# Altium footprint library chip.PcbLib: 31 footprints (part 2 of 2)
Each footprint in its own frame and in the unit in brackets; x right, y up, seen from the top. Pads: shape width x height; smd on the part's side, far side on the other; paste and mask are expansions set on the pad; w line width, h text height; cw(c..) or ccw(c..) is an arc to the next point about the centre after c.
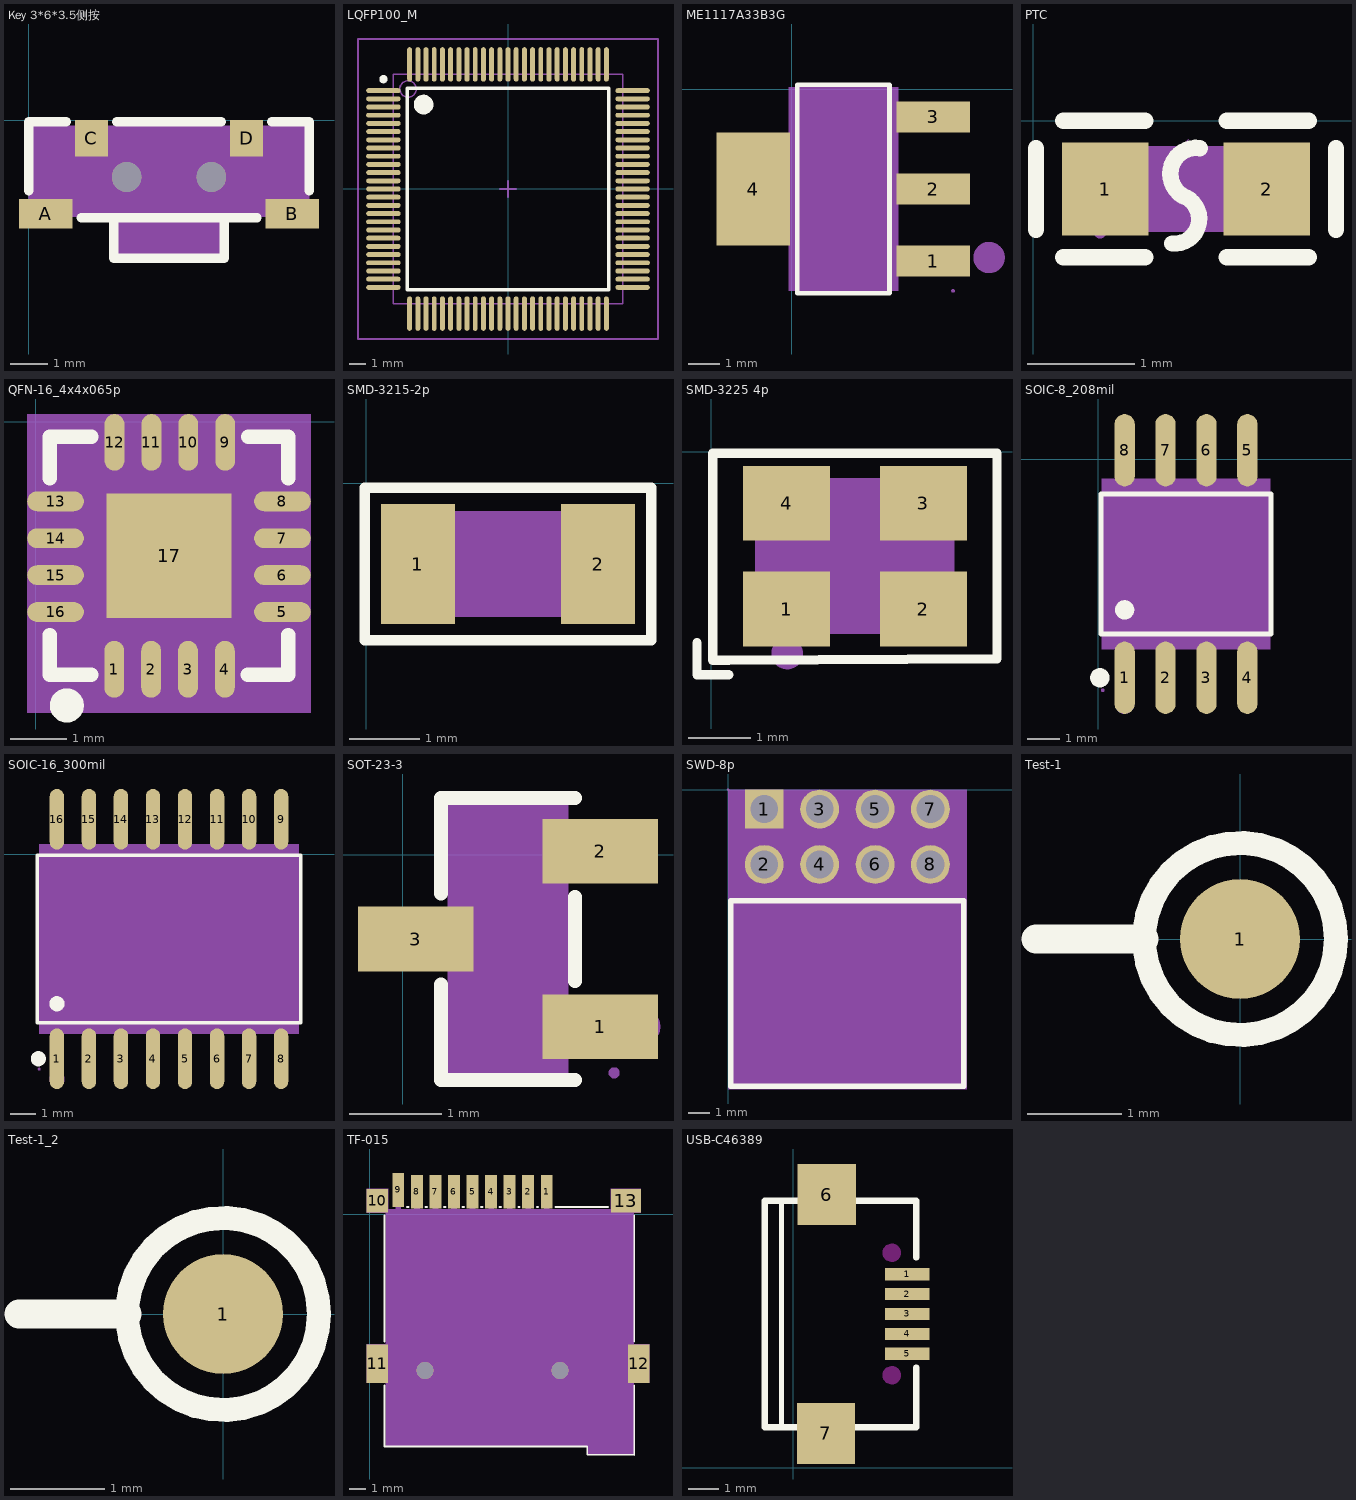
[diagram p1: the footprints below, top view; thin cyan lines are the x and y axes]

## Key 3*6*3.5侧按 [mm]
pads (6):
  rect 1.45x0.8 smd: A(0.455,-2.533) B(7.131,-2.533)
  rect 0.9x1 smd: C(1.693,-0.483) D(5.893,-0.483)
  round 0.8 hole 0.8 unplated: ""(2.643,-1.533) ""(4.943,-1.533)
Top Overlay:
  lines w0.254: -0.007,-1.901 -0.007,-0.033 1.012,-0.033 ; 1.411,-2.633 6.175,-2.633 ; 2.293,-2.633 2.293,-3.733 5.293,-3.733 5.293,-2.633 ; 2.374,-0.033 5.212,-0.038 ; 6.574,-0.033 7.593,-0.033 7.593,-1.901
Mechanical 4:
  circle w0.4: c2.643,-1.533 r0.2
  circle w0.4: c4.943,-1.533 r0.2
  region: -0.007,-0.138 7.593,-0.138 7.593,-2.608 5.293,-2.608 5.293,-3.638 2.293,-3.638 2.293,-2.608 -0.007,-2.608
Mechanical 5:
  circle w0.127: c2.643,-1.533 r0.4
  circle w0.127: c4.943,-1.533 r0.4
  region: 5.593,-0.088 6.193,-0.088 6.193,-0.878 5.593,-0.878
  region: 1.393,-0.088 1.993,-0.088 1.993,-0.878 1.393,-0.878
  region: -0.011,-2.158 -0.011,-2.605 -0.01,-2.606 0.672,-2.606 0.673,-2.607 0.673,-2.438 0.673,-2.437 0.193,-2.437 0.178,-2.422 0.178,-2.158
  region: 7.374,-2.158 7.374,-2.435 6.793,-2.435 6.793,-2.599 7.582,-2.605 7.587,-2.601 7.587,-2.158
Mechanical 15:
  lines w0.003: 3.767,-1.42 3.818,-1.369

## LQFP100_M [mm]
pads (100):
  oval 2.1x0.3 smd: 1(-7.6,6) 2(-7.6,5.5) 3(-7.6,5) 4(-7.6,4.5) 5(-7.6,4) 6(-7.6,3.5) 7(-7.6,3) 8(-7.6,2.5) 9(-7.6,2) 10(-7.6,1.5) 11(-7.6,1) 12(-7.6,0.5) 13(-7.6,0) 14(-7.6,-0.5) 15(-7.6,-1) 16(-7.6,-1.5) 17(-7.6,-2) 18(-7.6,-2.5) 19(-7.6,-3) 20(-7.6,-3.5) 21(-7.6,-4) 22(-7.6,-4.5) 23(-7.6,-5) 24(-7.6,-5.5) 25(-7.6,-6) 51(7.6,-6) 52(7.6,-5.5) 53(7.6,-5) 54(7.6,-4.5) 55(7.6,-4) 56(7.6,-3.5) 57(7.6,-3) 58(7.6,-2.5) 59(7.6,-2) 60(7.6,-1.5) 61(7.6,-1) 62(7.6,-0.5) 63(7.6,0) 64(7.6,0.5) 65(7.6,1) 66(7.6,1.5) 67(7.6,2) 68(7.6,2.5) 69(7.6,3) 70(7.6,3.5) 71(7.6,4) 72(7.6,4.5) 73(7.6,5) 74(7.6,5.5) 75(7.6,6)
  oval 0.3x2.1 smd: 26(-6,-7.6) 27(-5.5,-7.6) 28(-5,-7.6) 29(-4.5,-7.6) 30(-4,-7.6) 31(-3.5,-7.6) 32(-3,-7.6) 33(-2.5,-7.6) 34(-2,-7.6) 35(-1.5,-7.6) 36(-1,-7.6) 37(-0.5,-7.6) 38(0,-7.6) 39(0.5,-7.6) 40(1,-7.6) 41(1.5,-7.6) 42(2,-7.6) 43(2.5,-7.6) 44(3,-7.6) 45(3.5,-7.6) 46(4,-7.6) 47(4.5,-7.6) 48(5,-7.6) 49(5.5,-7.6) 50(6,-7.6) 76(6,7.6) 77(5.5,7.6) 78(5,7.6) 79(4.5,7.6) 80(4,7.6) 81(3.5,7.6) 82(3,7.6) 83(2.5,7.6) 84(2,7.6) 85(1.5,7.6) 86(1,7.6) 87(0.5,7.6) 88(0,7.6) 89(-0.5,7.6) 90(-1,7.6) 91(-1.5,7.6) 92(-2,7.6) 93(-2.5,7.6) 94(-3,7.6) 95(-3.5,7.6) 96(-4,7.6) 97(-4.5,7.6) 98(-5,7.6) 99(-5.5,7.6) 100(-6,7.6)
Top Overlay:
  circle w0.25: c-7.6,6.7 r0.125
  circle w0.6: c-5.15,5.15 r0.3
  lines w0.2: -6.15,-6.15 -6.15,6.15 6.15,6.15 6.15,-6.15 -6.15,-6.15
Mechanical 13:
  circle w0.1: c-6.1,6.1 r0.5
  lines w0.1: -7,-7 -7,7 7,7 7,-7 -7,-7
Mechanical 15:
  lines w0.1: -0.5,0 0.5,0 ; 0,-0.5 0,0.5 ; -9.15,-9.15 -9.15,9.15 9.15,9.15 9.15,-9.15 -9.15,-9.15
3D body "lqfp100.STEP": height 1.63, standoff 0.15, extent -7.975,-7.994 8.025,8.006

## ME1117A33B3G [mm]
pads (4):
  rect 2.34x0.98 smd: 1(4.522,-5.476) 2(4.522,-3.176) 3(4.522,-0.876)
  rect 2.34x3.6 smd: 4(-1.218,-3.176)
Top Overlay:
  lines w0.152: 0.181,-6.502 0.181,0.15 3.124,0.15 3.124,-6.502 0.181,-6.502
Mechanical 4:
  region: -0.098,-6.426 -0.098,0.074 3.402,0.074 3.402,-6.426
Mechanical 5:
  pour cut-out: 3.392,-1.251 3.392,-0.501 4.412,-0.501 4.412,-1.251
  region: 4.402,-1.251 4.402,-0.501 5.152,-0.501 5.152,-1.251
  pour cut-out: 3.392,-3.551 3.392,-2.801 4.412,-2.801 4.412,-3.551
  region: 4.402,-3.551 4.402,-2.801 5.152,-2.801 5.152,-3.551
  pour cut-out: 3.392,-5.851 3.392,-5.101 4.412,-5.101 4.412,-5.851
  region: 4.402,-5.851 4.402,-5.101 5.152,-5.101 5.152,-5.851
  pour cut-out: -1.108,-4.676 -1.108,-1.676 -0.088,-1.676 -0.088,-4.676
  region: -1.848,-4.676 -1.848,-1.676 -1.098,-1.676 -1.098,-4.676
Mechanical 6:
  circle w0.06: c5.153,-6.426 r0.03
Mechanical 15:
  circle w0.5: c6.304,-5.364 r0.25

## PTC [mm]
pads (2):
  rect 0.806x0.864 smd: 1(0.669,-0.635) 2(2.175,-0.635)
Top Overlay:
  lines w0.152: 0.025,-1.016 0.025,-0.254 ; 0.279,-1.27 1.041,-1.27 ; 0.279,0 1.041,0 ; 1.295,-1.143 ccw(c1.316,-0.915) 1.391,-0.699 ; 1.39,-0.699 cw(c1.518,-0.494) 1.549,-0.254 ; 1.803,-1.27 2.565,-1.27 ; 1.803,0 2.565,0 ; 2.819,-1.016 2.819,-0.254
Top Paste:
  region: 1.737,-0.773 1.737,-0.497 2.011,-0.203 2.515,-0.203 2.579,-0.267 2.579,-1.003 2.515,-1.067 2.011,-1.067
  region: 1.107,-0.773 1.107,-0.497 0.833,-0.203 0.33,-0.203 0.266,-0.267 0.266,-1.003 0.33,-1.067 0.833,-1.067
Mechanical 4:
  region: 0.622,-1.035 0.622,-0.235 2.222,-0.235 2.222,-1.035
Mechanical 5:
  region: 0.622,-1.035 0.622,-0.235 0.922,-0.235 0.922,-1.035
  region: 2.222,-1.035 2.222,-0.235 1.922,-0.235 1.922,-1.035
Mechanical 6:
  circle w0.06: c0.622,-1.035 r0.03
Mechanical 15:
  lines w0.003: 1.397,-0.222 1.448,-0.172

## QFN-16_4x4x065p [mm]
pads (17):
  oval 0.35x1 smd: 1(1.382,-4.367) 2(2.033,-4.367) 3(2.683,-4.367) 4(3.333,-4.367) 9(3.338,-0.367) 10(2.688,-0.367) 11(2.038,-0.367) 12(1.387,-0.367)
  oval 1x0.35 smd: 5(4.348,-3.358) 6(4.348,-2.707) 7(4.348,-2.057) 8(4.348,-1.407) 13(0.348,-1.407) 14(0.348,-2.057) 15(0.348,-2.707) 16(0.348,-3.358)
  rect 2.2x2.2 smd: 17(2.348,-2.367)
Top Overlay:
  lines w0.254: 0.248,-3.764 0.248,-4.467 0.976,-4.467 ; 0.248,-1.001 0.248,-0.267 0.981,-0.267 ; 3.739,-4.467 4.448,-4.467 4.448,-3.764 ; 3.744,-0.267 4.448,-0.267 4.448,-1.001
  lines w0.3: 0.544,-4.856 ccw(c0.545,-5.006) 0.547,-4.856
Mechanical 4:
  region: -0.152,0.133 4.848,0.133 4.848,-5.136 -0.152,-5.136
Mechanical 5:
  region: 1.248,-1.267 3.448,-1.267 3.448,-3.467 1.248,-3.467
  region: 1.212,0.133 1.562,0.133 1.562,-0.867 1.212,-0.867
  region: 1.863,0.133 2.213,0.133 2.213,-0.867 1.863,-0.867
  region: 2.513,0.133 2.863,0.133 2.863,-0.867 2.513,-0.867
  region: 3.163,0.133 3.513,0.133 3.513,-0.867 3.163,-0.867
  region: 3.158,-3.867 3.508,-3.867 3.508,-4.867 3.158,-4.867
  region: 2.508,-3.867 2.858,-3.867 2.858,-4.867 2.508,-4.867
  region: 1.858,-3.867 2.208,-3.867 2.208,-4.867 1.858,-4.867
  region: 1.207,-3.867 1.557,-3.867 1.557,-4.867 1.207,-4.867
  region: 3.848,-1.232 4.848,-1.232 4.848,-1.582 3.848,-1.582
  region: 3.848,-1.882 4.848,-1.882 4.848,-2.232 3.848,-2.232
  region: 3.848,-2.532 4.848,-2.532 4.848,-2.882 3.848,-2.882
  region: 3.848,-3.183 4.848,-3.183 4.848,-3.533 3.848,-3.533
  region: -0.152,-1.232 0.848,-1.232 0.848,-1.582 -0.152,-1.582
  region: -0.152,-1.882 0.848,-1.882 0.848,-2.232 -0.152,-2.232
  region: -0.152,-2.532 0.848,-2.532 0.848,-2.882 -0.152,-2.882
  region: -0.152,-3.183 0.848,-3.183 0.848,-3.533 -0.152,-3.533
Mechanical 15:
  lines w0.003: 2.322,-2.104 2.373,-2.053

## SMD-3215-2p [mm]
pads (2):
  rect 1.05x1.7 smd: 1(0.737,-1.143) 2(3.287,-1.143)
Top Overlay:
  lines w0.152: -0.017,-2.222 4.04,-2.222 4.04,-0.064 -0.017,-0.064 -0.017,-2.222
Mechanical 4:
  region: 0.412,-1.893 0.412,-0.393 3.612,-0.393 3.612,-1.893
Mechanical 5:
  region: 2.862,-1.893 2.862,-0.393 3.512,-0.393 3.512,-1.893
  region: 1.162,-1.893 1.162,-0.393 0.512,-0.393 0.512,-1.893
Mechanical 6:
  circle w0.06: c0.412,-1.893 r0.03
Mechanical 15:
  lines w0.003: 1.986,-0.698 2.037,-0.647

## SMD-3225 4p [mm]
pads (4):
  rect 1.4x1.2 smd: 1(1.211,-2.527) 2(3.411,-2.527) 3(3.411,-0.825) 4(1.211,-0.826)
Top Overlay:
  lines w0.152: -0.229,-3.074 -0.229,-3.582 0.279,-3.582 ; 0.025,-3.355 0.025,-0.025 4.597,-0.025 4.597,-1.676 4.597,-3.327 0.282,-3.355 0.025,-3.355
Mechanical 4:
  region: 0.711,-2.927 0.711,-0.427 3.911,-0.427 3.911,-2.927
Mechanical 5:
  region: 2.911,-2.027 3.811,-2.027 3.811,-2.827 2.911,-2.827
  region: 0.811,-2.027 1.711,-2.027 1.711,-2.827 0.811,-2.827
  region: 0.811,-0.527 1.711,-0.527 1.711,-1.327 0.811,-1.327
  region: 2.911,-0.527 3.811,-0.527 3.811,-1.327 2.911,-1.327
Mechanical 6:
  circle w0.1: c0.711,-2.927 r0.05
Mechanical 15:
  circle w0.254: c1.223,-3.244 r0.127
  region: 0.573,-2.213 0.609,-2.213 0.609,-2.285 0.573,-2.285
  region: 0.609,-2.213 0.645,-2.213 0.645,-2.285 0.609,-2.285
  region: 0.645,-2.177 0.681,-2.177 0.681,-2.285 0.645,-2.285
  region: 0.681,-2.141 0.717,-2.141 0.717,-2.249 0.681,-2.249
  region: 0.717,-2.141 0.753,-2.141 0.753,-2.681 0.717,-2.681
  region: 0.753,-2.105 0.789,-2.105 0.789,-2.681 0.753,-2.681
  region: 0.789,-2.105 0.825,-2.105 0.825,-2.681 0.789,-2.681
  region: 0.825,-2.105 0.861,-2.105 0.861,-2.681 0.825,-2.681

## SOIC-8_208mil [mm]
pads (8):
  oval 0.63x2.25 smd: 1(0.816,-6.774) 2(2.086,-6.774) 3(3.356,-6.774) 4(4.626,-6.774) 5(4.626,0.286) 6(3.356,0.286) 7(2.086,0.286) 8(0.816,0.286)
Top Overlay:
  circle w0.3: c0.049,-6.774 r0.15
  circle w0.3: c0.816,-4.668 r0.15
  lines w0.152: 0.082,-5.421 5.36,-5.421 5.36,-1.068 0.082,-1.068 0.082,-5.421
Mechanical 4:
  region: 0.106,-5.884 0.106,-0.604 5.336,-0.604 5.336,-5.884
Mechanical 5:
  pour cut-out: 4.401,0.066 4.401,-0.649 4.851,-0.649 4.851,0.066
  region: 4.401,0.706 4.401,0.056 4.851,0.056 4.851,0.706
  pour cut-out: 3.131,0.066 3.131,-0.649 3.581,-0.649 3.581,0.066
  region: 3.131,0.706 3.131,0.056 3.581,0.056 3.581,0.706
  pour cut-out: 1.861,0.066 1.861,-0.649 2.311,-0.649 2.311,0.066
  region: 1.861,0.706 1.861,0.056 2.311,0.056 2.311,0.706
  pour cut-out: 0.591,0.066 0.591,-0.649 1.041,-0.649 1.041,0.066
  region: 0.591,0.706 0.591,0.056 1.041,0.056 1.041,0.706
  pour cut-out: 4.401,-6.554 4.401,-5.839 4.851,-5.839 4.851,-6.554
  region: 4.401,-7.194 4.401,-6.544 4.851,-6.544 4.851,-7.194
  pour cut-out: 3.131,-6.554 3.131,-5.839 3.581,-5.839 3.581,-6.554
  region: 3.131,-7.194 3.131,-6.544 3.581,-6.544 3.581,-7.194
  pour cut-out: 1.861,-6.554 1.861,-5.839 2.311,-5.839 2.311,-6.554
  region: 1.861,-7.194 1.861,-6.544 2.311,-6.544 2.311,-7.194
  pour cut-out: 0.591,-6.554 0.591,-5.839 1.041,-5.839 1.041,-6.554
  region: 0.591,-7.194 0.591,-6.544 1.041,-6.544 1.041,-7.194
Mechanical 6:
  circle w0.06: c0.136,-7.164 r0.03
Mechanical 15:
  circle w0.3: c0.816,-7.594 r0.15

## SOIC-16_300mil [mm]
pads (16):
  oval 0.574x2.401 smd: 1(2.718,-8.122) 2(3.988,-8.122) 3(5.258,-8.122) 4(6.528,-8.122) 5(7.798,-8.122) 6(9.068,-8.122) 7(10.338,-8.122) 8(11.608,-8.122) 9(11.608,1.379) 10(10.338,1.379) 11(9.068,1.379) 12(7.798,1.379) 13(6.528,1.379) 14(5.258,1.379) 15(3.988,1.379) 16(2.718,1.379)
Top Overlay:
  circle w0.3: c1.979,-8.122 r0.15
  circle w0.3: c2.718,-5.94 r0.15
  lines w0.152: 1.937,-6.693 12.39,-6.693 12.39,-0.05 1.937,-0.05 1.937,-6.693
Mechanical 4:
  region: 2.013,-7.121 2.013,0.379 12.313,0.379 12.313,-7.121
Mechanical 5:
  pour cut-out: 11.403,0.966 11.403,0.369 11.813,0.369 11.813,0.966
  region: 11.403,1.791 11.403,0.956 11.813,0.956 11.813,1.791
  pour cut-out: 10.133,0.966 10.133,0.369 10.543,0.369 10.543,0.966
  region: 10.133,1.791 10.133,0.956 10.543,0.956 10.543,1.791
  pour cut-out: 8.863,0.966 8.863,0.369 9.273,0.369 9.273,0.966
  region: 8.863,1.791 8.863,0.956 9.273,0.956 9.273,1.791
  pour cut-out: 7.593,0.966 7.593,0.369 8.003,0.369 8.003,0.966
  region: 7.593,1.791 7.593,0.956 8.003,0.956 8.003,1.791
  pour cut-out: 6.323,0.966 6.323,0.369 6.733,0.369 6.733,0.966
  region: 6.323,1.791 6.323,0.956 6.733,0.956 6.733,1.791
  pour cut-out: 5.053,0.966 5.053,0.369 5.463,0.369 5.463,0.966
  region: 5.053,1.791 5.053,0.956 5.463,0.956 5.463,1.791
  pour cut-out: 3.783,0.966 3.783,0.369 4.193,0.369 4.193,0.966
  region: 3.783,1.791 3.783,0.956 4.193,0.956 4.193,1.791
  pour cut-out: 2.513,0.966 2.513,0.369 2.923,0.369 2.923,0.966
  region: 2.513,1.791 2.513,0.956 2.923,0.956 2.923,1.791
  pour cut-out: 11.403,-7.709 11.403,-7.111 11.813,-7.111 11.813,-7.709
  region: 11.403,-8.534 11.403,-7.699 11.813,-7.699 11.813,-8.534
  pour cut-out: 10.133,-7.709 10.133,-7.111 10.543,-7.111 10.543,-7.709
  region: 10.133,-8.534 10.133,-7.699 10.543,-7.699 10.543,-8.534
  pour cut-out: 8.863,-7.709 8.863,-7.111 9.273,-7.111 9.273,-7.709
  region: 8.863,-8.534 8.863,-7.699 9.273,-7.699 9.273,-8.534
  pour cut-out: 7.593,-7.709 7.593,-7.111 8.003,-7.111 8.003,-7.709
  region: 7.593,-8.534 7.593,-7.699 8.003,-7.699 8.003,-8.534
  pour cut-out: 6.323,-7.709 6.323,-7.111 6.733,-7.111 6.733,-7.709
  region: 6.323,-8.534 6.323,-7.699 6.733,-7.699 6.733,-8.534
  pour cut-out: 5.053,-7.709 5.053,-7.111 5.463,-7.111 5.463,-7.709
  region: 5.053,-8.534 5.053,-7.699 5.463,-7.699 5.463,-8.534
  pour cut-out: 3.783,-7.709 3.783,-7.111 4.193,-7.111 4.193,-7.709
  region: 3.783,-8.534 3.783,-7.699 4.193,-7.699 4.193,-8.534
  pour cut-out: 2.513,-7.709 2.513,-7.111 2.923,-7.111 2.923,-7.709
  region: 2.513,-8.534 2.513,-7.699 2.923,-7.699 2.923,-8.534
Mechanical 6:
  circle w0.06: c2.013,-8.534 r0.03
Mechanical 15:
  circle w0.3: c2.718,-8.934 r0.15

## SOT-23-3 [mm]
pads (3):
  rect 1.25x0.7 smd: 1(2.142,-1.862) 2(2.142,0.038) 3(0.142,-0.912)
Top Overlay:
  lines w0.152: 0.416,-1.407 0.416,-2.438 1.869,-2.438 ; 0.416,-0.418 0.416,0.614 1.869,0.614 ; 1.869,-1.368 1.869,-0.457
Mechanical 4:
  region: 0.492,-2.362 0.492,0.538 1.792,0.538 1.792,-2.362
Mechanical 5:
  pour cut-out: 0.282,-1.127 0.282,-0.697 0.502,-0.697 0.502,-1.127
  region: 0.292,-1.127 0.292,-0.697 -0.008,-0.697 -0.008,-1.127
  pour cut-out: 1.782,-0.177 1.782,0.253 2.002,0.253 2.002,-0.177
  region: 1.992,-0.177 1.992,0.253 2.292,0.253 2.292,-0.177
  pour cut-out: 1.782,-2.077 1.782,-1.647 2.002,-1.647 2.002,-2.077
  region: 1.992,-2.077 1.992,-1.647 2.292,-1.647 2.292,-2.077
Mechanical 6:
  circle w0.06: c2.292,-2.362 r0.03
Mechanical 15:
  circle w0.2: c2.592,-1.862 r0.1

## SWD-8p [mil]
pads (8):
  rect 70x70 hole 50: 1(65.18,-35)
  round 70 hole 50: 2(65.18,-135) 3(165.18,-35) 4(165.18,-135) 5(265.18,-35) 6(265.18,-135) 7(365.18,-35) 8(365.18,-135)
Top Overlay:
  lines w10: 5.18,-535 425.18,-535 425.18,-200 15.18,-200 5.18,-200 5.18,-535
Mechanical 4:
  region: 0.18,0 430.18,0 430.18,-540 0.18,-540
Mechanical 5:
  circle w21.06: c65.18,-35 r10.53
  circle w21.06: c65.18,-135 r10.53
  circle w21.06: c165.18,-35 r10.53
  circle w21.06: c165.18,-135 r10.53
  circle w21.06: c265.18,-35 r10.53
  circle w21.06: c265.18,-135 r10.53
  circle w21.06: c365.18,-35 r10.53
  circle w21.06: c365.18,-135 r10.53
Mechanical 6:
  circle w2.36: c0.18,0 r1.18
Mechanical 15:
  lines w0.1: 213.59,-252.25 215.59,-250.25

## Test-1 [mm]
pads (1):
  round 1.27 smd: 1(0,0)
Top Overlay:
  circle w0.254: c0,0 r1.016
  lines w0.305: -2.159,0 -1.016,0

## Test-1_2 [mm]
pads (1):
  round 1.27 smd: 1(0,0)
Top Overlay:
  circle w0.254: c0,0 r1.016
  lines w0.305: -2.159,0 -1.016,0

## TF-015 [mm] "Micro TF"
pads (15):
  rect 0.7x2 smd: 1(10.496,1.352) 2(9.396,1.351) 3(8.3,1.352) 4(7.2,1.352) 5(6.102,1.352) 6(5.003,1.352) 7(3.907,1.352) 8(2.809,1.352) 9(1.705,1.452)
  rect 1.27x1.397 smd: 10(0.457,0.814)
  rect 1.27x2.286 smd: 11(0.457,-8.838) 12(15.951,-8.838)
  rect 1.778x1.397 smd: 13(15.189,0.814)
  round 1 hole 1 unplated: ""(3.289,-9.249) ""(11.288,-9.247)
Top Overlay:
  lines w0.1: 12.903,-14.248 12.903,-13.751
  lines w0.102: 0.89,-13.75 12.903,-13.751 ; 0.89,-13.749 0.89,-10.136 ; 0.89,-7.54 0.89,-0.039 ; 2.21,0.447 2.304,0.447 ; 3.314,0.447 3.402,0.447 ; 4.412,0.447 4.498,0.447 ; 5.508,0.447 5.597,0.447 ; 6.606,0.447 6.695,0.447 ; 7.705,0.447 7.795,0.447 ; 8.805,0.447 8.891,0.447 ; 9.901,0.447 9.991,0.447 ; 11.001,0.447 14.145,0.447 ; 12.903,-14.248 15.69,-14.249 15.69,-10.136 ; 15.69,-7.54 15.69,-0.039
Mechanical 4:
  circle w0.5: c3.289,-9.249 r0.25
  circle w0.5: c11.288,-9.247 r0.25
  region: 0.965,0.307 15.665,0.307 15.665,-14.193 12.903,-14.193 12.903,-13.75 0.965,-13.75
Mechanical 5:
  circle w0.127: c3.289,-9.249 r0.5
  circle w0.127: c11.288,-9.247 r0.5
  region: 10.346,1.159 10.646,1.159 10.646,0.559 10.346,0.559
  region: -0.178,1.513 1.092,1.513 1.092,0.116 -0.178,0.116
  region: 14.3,1.513 16.078,1.513 16.078,0.116 14.3,0.116
  region: 15.316,-7.695 16.586,-7.695 16.586,-9.981 15.316,-9.981
  region: -0.178,-7.695 1.092,-7.695 1.092,-9.981 -0.178,-9.981
  pour cut-out: 10.346,0.574 10.646,0.574 10.646,0.27 10.346,0.27
  region: 9.246,1.157 9.546,1.157 9.546,0.557 9.246,0.557
  pour cut-out: 9.247,0.573 9.547,0.573 9.547,0.268 9.247,0.268
  region: 8.15,1.159 8.45,1.159 8.45,0.559 8.15,0.559
  pour cut-out: 8.15,0.574 8.45,0.574 8.45,0.27 8.15,0.27
  region: 7.05,1.159 7.35,1.159 7.35,0.559 7.05,0.559
  pour cut-out: 7.051,0.574 7.351,0.574 7.351,0.27 7.051,0.27
  region: 5.952,1.159 6.252,1.159 6.252,0.559 5.952,0.559
  pour cut-out: 5.952,0.574 6.252,0.574 6.252,0.27 5.952,0.27
  region: 4.853,1.159 5.153,1.159 5.153,0.559 4.853,0.559
  pour cut-out: 4.854,0.574 5.154,0.574 5.154,0.27 4.854,0.27
  region: 3.757,1.159 4.057,1.159 4.057,0.559 3.757,0.559
  pour cut-out: 3.757,0.574 4.057,0.574 4.057,0.27 3.757,0.27
  region: 2.659,1.159 2.959,1.159 2.959,0.559 2.659,0.559
  pour cut-out: 2.659,0.574 2.959,0.574 2.959,0.27 2.659,0.27
  region: 1.555,1.159 1.855,1.159 1.855,0.559 1.555,0.559
  pour cut-out: 1.555,0.574 1.855,0.574 1.855,0.27 1.555,0.27
Mechanical 15:
  lines w0.003: 8.179,-5.53 8.23,-5.479

## USB-C46389 [mm]
pads (7):
  rect 1.45x0.4 smd: 1(3.713,6.329) 2(3.713,5.679) 3(3.713,5.029) 4(3.713,4.379) 5(3.713,3.729)
  rect 1.9x2 smd: 6(1.088,8.929) 7(1.063,1.129)
Top Overlay:
  lines w0.152: -0.387,1.329 -0.387,8.729
  lines w0.203: -0.387,1.329 -0.937,1.329 -0.937,8.729 -0.387,8.729 4.013,8.729 4.013,6.879 ; -0.337,1.329 4.013,1.329 4.013,3.279
Keep-Out Layer:
  board cut-out: 2.932,3.029 2.932,2.974 2.975,2.871 3.054,2.792 3.157,2.749 3.212,2.749 3.268,2.749 3.371,2.792 3.45,2.871 3.492,2.974 3.492,3.029 3.492,3.085 3.45,3.188 3.371,3.267 3.268,3.309 3.212,3.309 3.157,3.309 3.054,3.267 2.975,3.188 2.932,3.085
  board cut-out: 3.212,6.749 3.157,6.749 3.054,6.792 2.975,6.871 2.932,6.973 2.932,7.029 2.932,7.085 2.975,7.188 3.054,7.267 3.157,7.309 3.212,7.309 3.268,7.309 3.371,7.267 3.45,7.188 3.492,7.085 3.492,7.029 3.492,6.973 3.45,6.871 3.371,6.792 3.268,6.749
Keep-Out Layer:
  circle w0.051: c3.212,7.029 r0.28
  circle w0.051: c3.212,3.029 r0.28